# Altium schematic symbol library WE-FB 3751.SchLib: 4 symbols
Pins are listed as number, name and electrical type; pins without a type are passive.

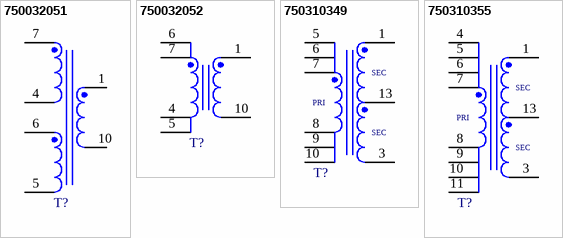
[diagram p0: symbols 750032051 to 750310355]

## 750032051
designator T?, comment 18-30Vin  (value not drawn)
WE-FB 3751 Flyback Transformer suitable for 3751, SMT, EFD20, 18-30Vin, 10uH; Manufacturer Part Number: 750032051; Manufacturer: Wurth Elektronik; IC Reference: LT3751; Input Voltage: 18-30VDC; Insulation Test Voltage: 1000VAC; Leakage Inductance: 0.05uH; Turns Ratio: 1:10; Category: Transformers For DC-DC Converter; Match Code: WE-FB 3751; ComponentLink1Description: Website Link; ComponentLink1URL: https://www.we-online.com/redexpert/article/750032051?ad; ComponentLink2Description: Datasheet Link; ComponentLink2URL: https://www.we-online.com/redexpert/spec/750032051?ad; Mount: Surface Mount; Operating Temperature Max: 125°C; Operating Temperature Min: -40°C; Packaging: Tape and Reel; Case/Size Code: EFD20; Length: 28.7mm; Width: 21.97mm; Height: 11.43mm; Inductance: 10uH
footprint WE-FB 3751_EFD20
simulation model 750032051
pins: 1, 4, 5, 6, 7, 10

## 750032052
designator T?, comment 18-30Vin  (value not drawn)
WE-FB 3751 Flyback Transformer suitable for 3751, SMT, EFD20, 18-30Vin, 10uH; Manufacturer Part Number: 750032052; Manufacturer: Wurth Elektronik; IC Reference: LT3751; Input Voltage: 18-30VDC; Insulation Test Voltage: 1000VAC; Leakage Inductance: 0.3uH; Turns Ratio: 1:10; Category: Transformers For DC-DC Converter; Match Code: WE-FB 3751; ComponentLink1Description: Website Link; ComponentLink1URL: https://www.we-online.com/redexpert/article/750032052?ad; ComponentLink2Description: Datasheet Link; ComponentLink2URL: https://www.we-online.com/redexpert/spec/750032052?ad; Mount: Surface Mount; Operating Temperature Max: 125°C; Operating Temperature Min: -40°C; Packaging: Tape and Reel; Case/Size Code: EFD20; Length: 28.7mm; Width: 21.97mm; Height: 11.43mm; Inductance: 10uH
footprint WE-FB 3751_EFD20
simulation model 750032052
pins: 1, 4, 5, 6, 7, 10

## 750310349
designator T?, comment 18-30Vin  (value not drawn)
WE-FB 3751 Flyback Transformer suitable for 3751, THT, EE35/18/10, 18-30Vin, 5uH; Manufacturer Part Number: 750310349; Manufacturer: Wurth Elektronik; IC Reference: LT3751; Input Voltage: 18-30VDC; Insulation Test Voltage: 1250VAC; Leakage Inductance: 0.1uH; Turns Ratio: 1:10; Category: Transformers For DC-DC Converter; Match Code: WE-FB 3751; ComponentLink1Description: Website Link; ComponentLink1URL: https://www.we-online.com/redexpert/article/750310349?ad; ComponentLink2Description: Datasheet Link; ComponentLink2URL: https://www.we-online.com/redexpert/spec/750310349?ad; Mount: Through Hole; Operating Temperature Max: 125°C; Operating Temperature Min: -40°C; Packaging: Tray; Case/Size Code: EE35/18/10; Length: 42mm; Width: 36.5mm; Height: 23mm; Inductance: 5uH
footprint WE-FB 3751_EE35/18/10
simulation model 750310349
pins: 1, 3, 5, 6, 7, 8, 9, 10, 13
text: SEC; PRI

## 750310355
designator T?, comment 18-30Vin  (value not drawn)
WE-FB 3751 Flyback Transformer suitable for 3751, THT, EE35/18/10, 18-30Vin, 2.5uH; Manufacturer Part Number: 750310355; Manufacturer: Wurth Elektronik; IC Reference: LT3751; Input Voltage: 18-30VDC; Insulation Test Voltage: 1250VAC; Leakage Inductance: 0.1uH; Turns Ratio: 1:10; Category: Transformers For DC-DC Converter; Match Code: WE-FB 3751; ComponentLink1Description: Website Link; ComponentLink1URL: https://www.we-online.com/redexpert/article/750310355?ad; ComponentLink2Description: Datasheet Link; ComponentLink2URL: https://www.we-online.com/redexpert/spec/750310355?ad; Mount: Through Hole; Operating Temperature Max: 125°C; Operating Temperature Min: -40°C; Packaging: Tray; Case/Size Code: EE35/18/10; Length: 42mm; Width: 36.5mm; Height: 23mm; Inductance: 2.5uH
footprint WE-FB 3751_EE35/18/10
simulation model 750310355
pins: 1, 3, 4, 5, 6, 7, 8, 9, 10, 11, 13
text: SEC; PRI